# Altium footprint library MC34063.PcbLib: 1 footprints
Each footprint in its own frame and in the unit in brackets; x right, y up, seen from the top. Pads: shape width x height; smd on the part's side, far side on the other; paste and mask are expansions set on the pad; w line width, h text height; cw(c..) or ccw(c..) is an arc to the next point about the centre after c.
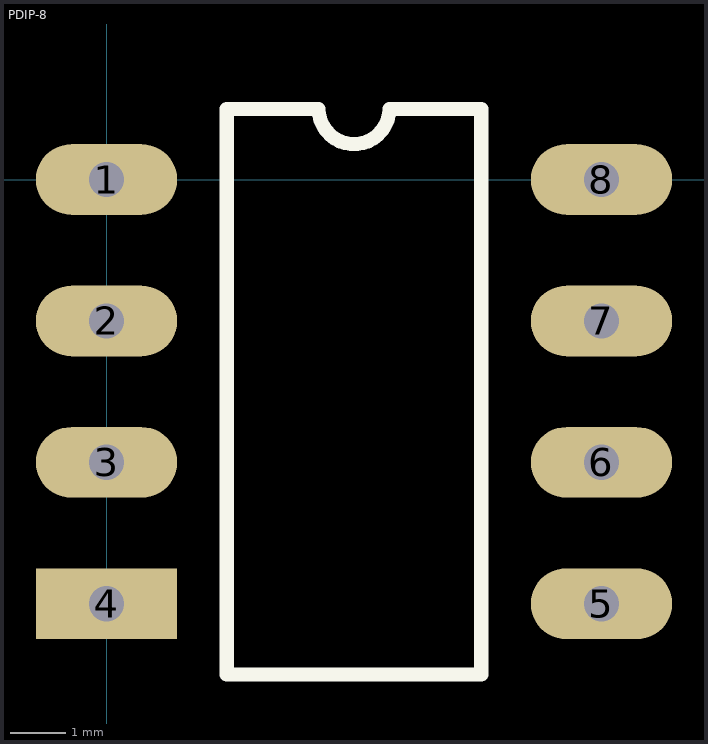
[diagram p0: the footprint, top view; thin cyan lines are the x and y axes]

## PDIP-8 [mil]
pads (8):
  oval 100x50 hole 25: 1(0,0) 2(0,-100) 3(0,-200) 5(350,-300) 6(350,-200) 7(350,-100) 8(350,0)
  rect 100x50 hole 25: 4(0,-300)
Top Overlay:
  lines w10: 85,-350 265,-350 265,50 200,50 cw(c175,50) 150,50 85,50 85,-350